# Altium schematic symbol library LaserDiode.SchLib: 12 symbols
Pins are listed as number, name and electrical type; pins without a type are passive.

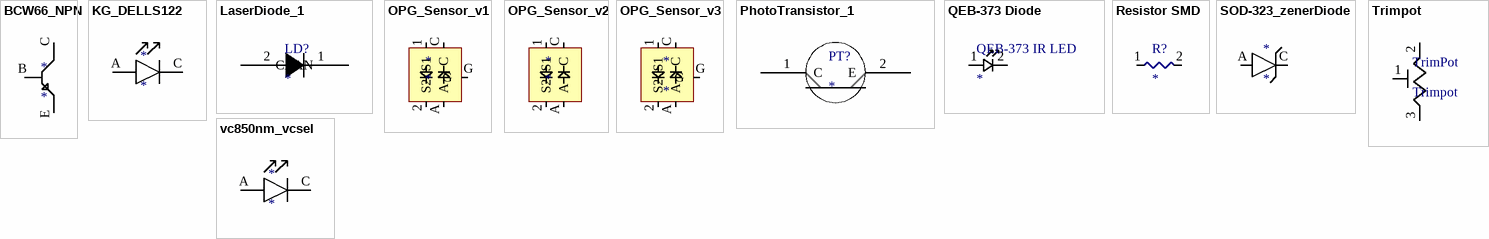
[diagram p0: symbols BCW66_NPN to vc850nm_vcsel]

## BCW66_NPN
designator *
footprint BCW66_NPN (Nexperia npn bjt transistor, general purpose)
pins: B, C, E

## KG_DELLS122
designator *
Osram blue led, 1608 package
footprint KG_DELLS122 (Osram blue led, 1608 package)
pins: A, C

## LaserDiode_1
designator LD?
Laser Diode OPR2800V
footprint OPR2800V (OPR2800V Laser Diode)
pins: 1 CA, 2 AN

## OPG_Sensor_v1
designator *
footprint OPG_SENSOR_2 (Similar footprint as *_1, but with smaller PD pads); pin to pad 1>S1 2>S2 C>S
pins: 1 S1, 2 S2, A, C, G

## OPG_Sensor_v2
designator *
footprint OPG_SENSOR_2 (Similar footprint as *_1, but with smaller PD pads)
pins: 1 S1, 2 S2, A, C

## OPG_Sensor_v3
designator *
footprint OPG_SENSOR_3; pin to pad 1>S1 2>S2 C>D
pins: 1 S1, 2 S2, A, C, G

## PhotoTransistor_1
designator PT?
TEMP7100X01 Phototransistor 0805
footprint TEMT7100X01 (TEMT7100X01 Phototransistor)
pins: 1 C, 2 E

## QEB-373 Diode
designator QEB-373 IR LED
QEB-373 IR LED
footprint QEB-373 (QEB-373 IR LED)
pins: 1, 2

## Resistor SMD
designator R?
2012/0805 Resistor SMD
footprint RES0805W (resistor 0805 wave soldering)
pins: 1, 2

## SOD-323_zenerDiode
designator *
footprint SOD-323
pins: A, C

## Trimpot
designator TrimPot
WEL3296 Trimpot; Resistance: *
footprint TrimPot (Trim Potentiometer)
pins: 1, 2, 3

## vc850nm_vcsel
designator *
VCSEL, smd part footprint 0603
footprint VC850nm_vcsel
pins: A, C